# EAGLE library part NUCLEO-L053R8 (library NUCLEO)
STM32 Nucleo-64 development board with STM32L053R8T6 MCU, supports Arduino and ST morpho connectivity Check prices <https://pricing.snapeda.com/parts/NUCLEO-L053R8/STMicroelectronics/view-part?ref=eda> Check availability <https://pricing.snapeda.com/parts/NUCLEO-L053R8/STMicroelectronics/view-part?ref=eda>
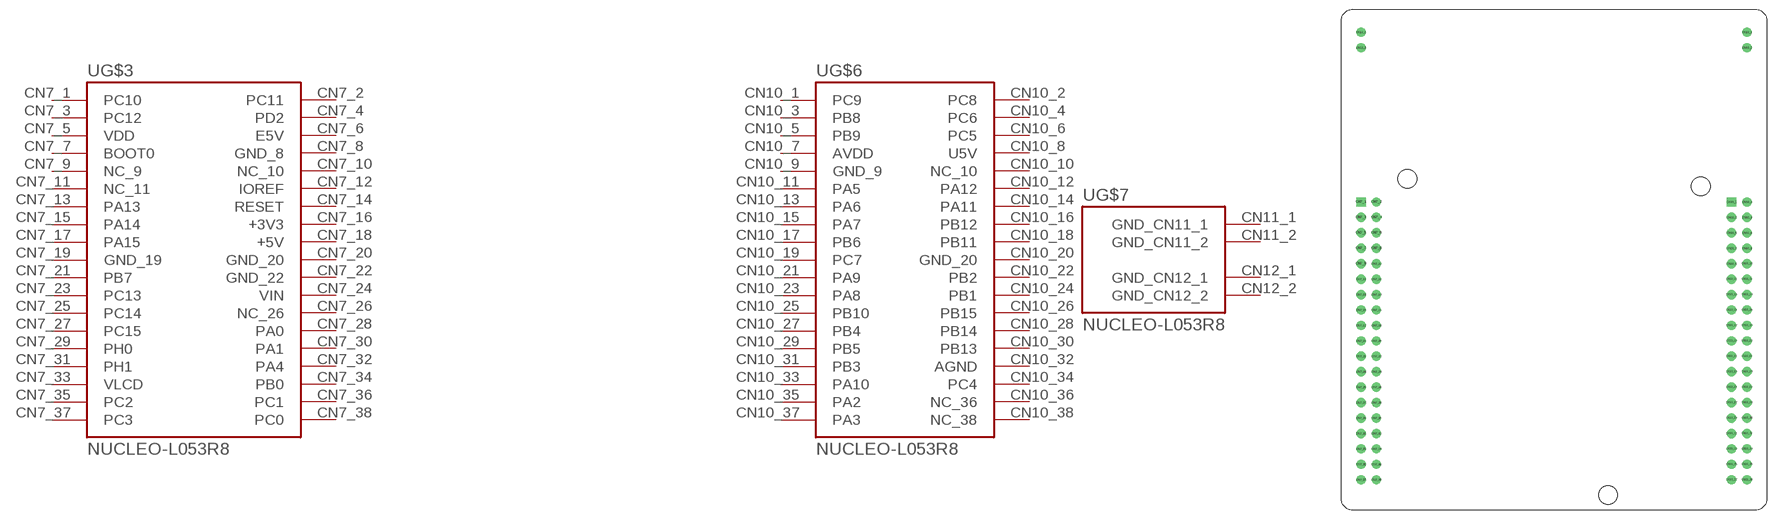
[diagram p0: symbol with the pads of MODULE_NUCLEO-L053R8; footprint MODULE_NUCLEO-L053R8]

Designator prefix U; gates G$3=NUCLEO-L053R8_CN7 G$6=NUCLEO-L053R8_CN10 G$7=NUCLEO-L053R8_CN11_CN12

## NUCLEO-L053R8 (AVAILABILITY: In Stock; DESCRIPTION: STM32L053R8, mbed-Enabled Development Nucleo-64 STM32L0 ARM® Cortex®-M0+ MCU 32-Bit Embedded Evaluation Board; MF: STMicroelectronics; MP: NUCLEO-L053R8; PACKAGE: None; PRICE: None; PURCHASE-URL: https://pricing.snapeda.com/search/part/NUCLEO-L053R8/?ref=eda)  [MODULE_NUCLEO-L053R8]
CN7_1  G$3:PC10
CN7_2  G$3:PC11
CN7_3  G$3:PC12
CN7_4  G$3:PD2
CN7_5  G$3:VDD  pwr
CN7_6  G$3:E5V  pwr
CN7_7  G$3:BOOT0  pas
CN7_8  G$3:GND_8  pwr
CN7_9  G$3:NC_9  nc
CN7_10  G$3:NC_10  nc
CN7_11  G$3:NC_11  nc
CN7_12  G$3:IOREF  pas
CN7_13  G$3:PA13
CN7_14  G$3:RESET  pas
CN7_15  G$3:PA14
CN7_16  G$3:+3V3  pwr
CN7_17  G$3:PA15
CN7_18  G$3:+5V  pwr
CN7_19  G$3:GND_19  pwr
CN7_20  G$3:GND_20  pwr
CN7_21  G$3:PB7
CN7_22  G$3:GND_22  pwr
CN7_23  G$3:PC13
CN7_24  G$3:VIN  pwr
CN7_25  G$3:PC14
CN7_26  G$3:NC_26  nc
CN7_27  G$3:PC15
CN7_28  G$3:PA0
CN7_29  G$3:PH0
CN7_30  G$3:PA1
CN7_31  G$3:PH1
CN7_32  G$3:PA4
CN7_33  G$3:VLCD  pas
CN7_34  G$3:PB0
CN7_35  G$3:PC2
CN7_36  G$3:PC1
CN7_37  G$3:PC3
CN7_38  G$3:PC0
CN10_1  G$6:PC9
CN10_2  G$6:PC8
CN10_3  G$6:PB8
CN10_4  G$6:PC6
CN10_5  G$6:PB9
CN10_6  G$6:PC5
CN10_7  G$6:AVDD  pwr
CN10_8  G$6:U5V  pas
CN10_9  G$6:GND_9  pwr
CN10_10  G$6:NC_10  nc
CN10_11  G$6:PA5  out
CN10_12  G$6:PA12
CN10_13  G$6:PA6  in
CN10_14  G$6:PA11
CN10_15  G$6:PA7  out
CN10_16  G$6:PB12
CN10_17  G$6:PB6  out
CN10_18  G$6:PB11
CN10_19  G$6:PC7
CN10_20  G$6:GND_20  pwr
CN10_21  G$6:PA9
CN10_22  G$6:PB2
CN10_23  G$6:PA8
CN10_24  G$6:PB1
CN10_25  G$6:PB10
CN10_26  G$6:PB15
CN10_27  G$6:PB4
CN10_28  G$6:PB14
CN10_29  G$6:PB5
CN10_30  G$6:PB13
CN10_31  G$6:PB3
CN10_32  G$6:AGND  pwr
CN10_33  G$6:PA10
CN10_34  G$6:PC4
CN10_35  G$6:PA2
CN10_36  G$6:NC_36  nc
CN10_37  G$6:PA3
CN10_38  G$6:NC_38  nc
CN11_1  G$7:GND_CN11_1  pwr
CN11_2  G$7:GND_CN11_2  pwr
CN12_1  G$7:GND_CN12_1  pwr
CN12_2  G$7:GND_CN12_2  pwr

## Footprint MODULE_NUCLEO-L053R8 (pad centres in mm)
drill 1.02 square: CN7_1 -31.75,9.51; CN10_1 29.21,9.51
drill 1.02: CN7_2 -29.21,9.51; CN7_3 -31.75,6.97; CN7_4 -29.21,6.97; CN7_5 -31.75,4.43; CN7_6 -29.21,4.43; CN7_7 -31.75,1.89; CN7_8 -29.21,1.89; CN7_9 -31.75,-0.65; CN7_10 -29.21,-0.65; CN7_11 -31.75,-3.19; CN7_12 -29.21,-3.19; CN7_13 -31.75,-5.73; CN7_14 -29.21,-5.73; CN7_15 -31.75,-8.27; CN7_16 -29.21,-8.27; CN7_17 -31.75,-10.81; CN7_18 -29.21,-10.81; CN7_19 -31.75,-13.35; CN7_20 -29.21,-13.35; CN7_21 -31.75,-15.89; CN7_22 -29.21,-15.89; CN7_23 -31.75,-18.43; CN7_24 -29.21,-18.43; CN7_25 -31.75,-20.97; CN7_26 -29.21,-20.97; CN7_27 -31.75,-23.51; CN7_28 -29.21,-23.51; CN7_29 -31.75,-26.05; CN7_30 -29.21,-26.05; CN7_31 -31.75,-28.59; CN7_32 -29.21,-28.59; CN7_33 -31.75,-31.13; CN7_34 -29.21,-31.13; CN7_35 -31.75,-33.67; CN7_36 -29.21,-33.67; CN7_37 -31.75,-36.21; CN7_38 -29.21,-36.21; CN10_2 31.75,9.51; CN10_3 29.21,6.97; CN10_4 31.75,6.97; CN10_5 29.21,4.43; CN10_6 31.75,4.43; CN10_7 29.21,1.89; CN10_8 31.75,1.89; CN10_9 29.21,-0.65; CN10_10 31.75,-0.65; CN10_11 29.21,-3.19; CN10_12 31.75,-3.19; CN10_13 29.21,-5.73; CN10_14 31.75,-5.73; CN10_15 29.21,-8.27; CN10_16 31.75,-8.27; CN10_17 29.21,-10.81; CN10_18 31.75,-10.81; CN10_19 29.21,-13.35; CN10_20 31.75,-13.35; CN10_21 29.21,-15.89; CN10_22 31.75,-15.89; CN10_23 29.21,-18.43; CN10_24 31.75,-18.43; CN10_25 29.21,-20.97; CN10_26 31.75,-20.97; CN10_27 29.21,-23.51; CN10_28 31.75,-23.51; CN10_29 29.21,-26.05; CN10_30 31.75,-26.05; CN10_31 29.21,-28.59; CN10_32 31.75,-28.59; CN10_33 29.21,-31.13; CN10_34 31.75,-31.13; CN10_35 29.21,-33.67; CN10_36 31.75,-33.67; CN10_37 29.21,-36.21; CN10_38 31.75,-36.21; CN11_1 31.75,37.45; CN11_2 31.75,34.91; CN12_1 -31.75,37.45; CN12_2 -31.75,34.91
hole 3.05 at 24.13,12.05
hole 3.05 at -24.13,13.32
hole 3.05 at 8.89,-38.75